# EAGLE library part OPAMP (library sj_ic)
Operational Amplifier
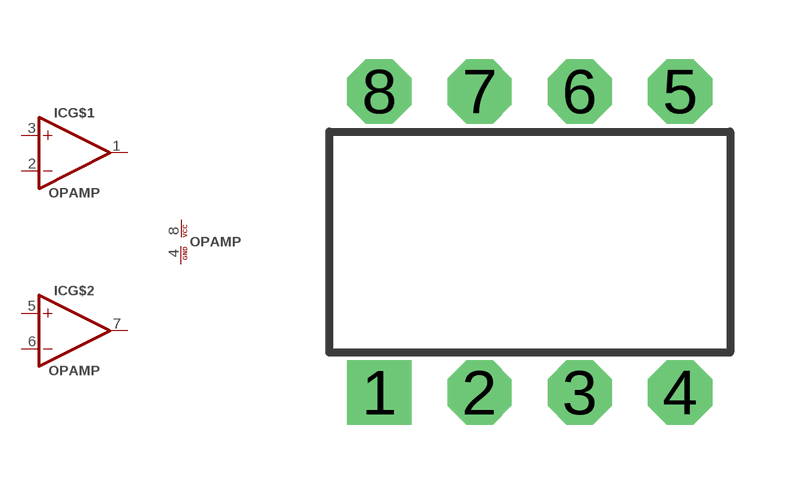
[diagram p5: symbol with the pads of DIP08; footprint DIP08]

Designator prefix IC; gates G$2=OPAMP G$1=OPAMP POWER=POWER

## OPAMP_LM358  [DIP08]
1  G$1:OUT  out
2  G$1:-IN  in
3  G$1:+IN  in
4  POWER:GND  pwr
5  G$2:+IN  in
6  G$2:-IN  in
7  G$2:OUT  out
8  POWER:VCC  pwr

## Footprint DIP08 (pad centres in mm)
8-pin Dual In Line Package
drill 0.813 pad 1.626 square: 1 -3.81,-3.81
drill 0.813 pad 1.626 octagon: 2 -1.27,-3.81; 3 1.27,-3.81; 4 3.81,-3.81; 5 3.81,3.81; 6 1.27,3.81; 7 -1.27,3.81; 8 -3.81,3.81